# Altium footprint library pengyulib.PcbLib: 33 footprints (part 2 of 3)
Each footprint in its own frame and in the unit in brackets; x right, y up, seen from the top. Pads: shape width x height; smd on the part's side, far side on the other; paste and mask are expansions set on the pad; w line width, h text height; cw(c..) or ccw(c..) is an arc to the next point about the centre after c.
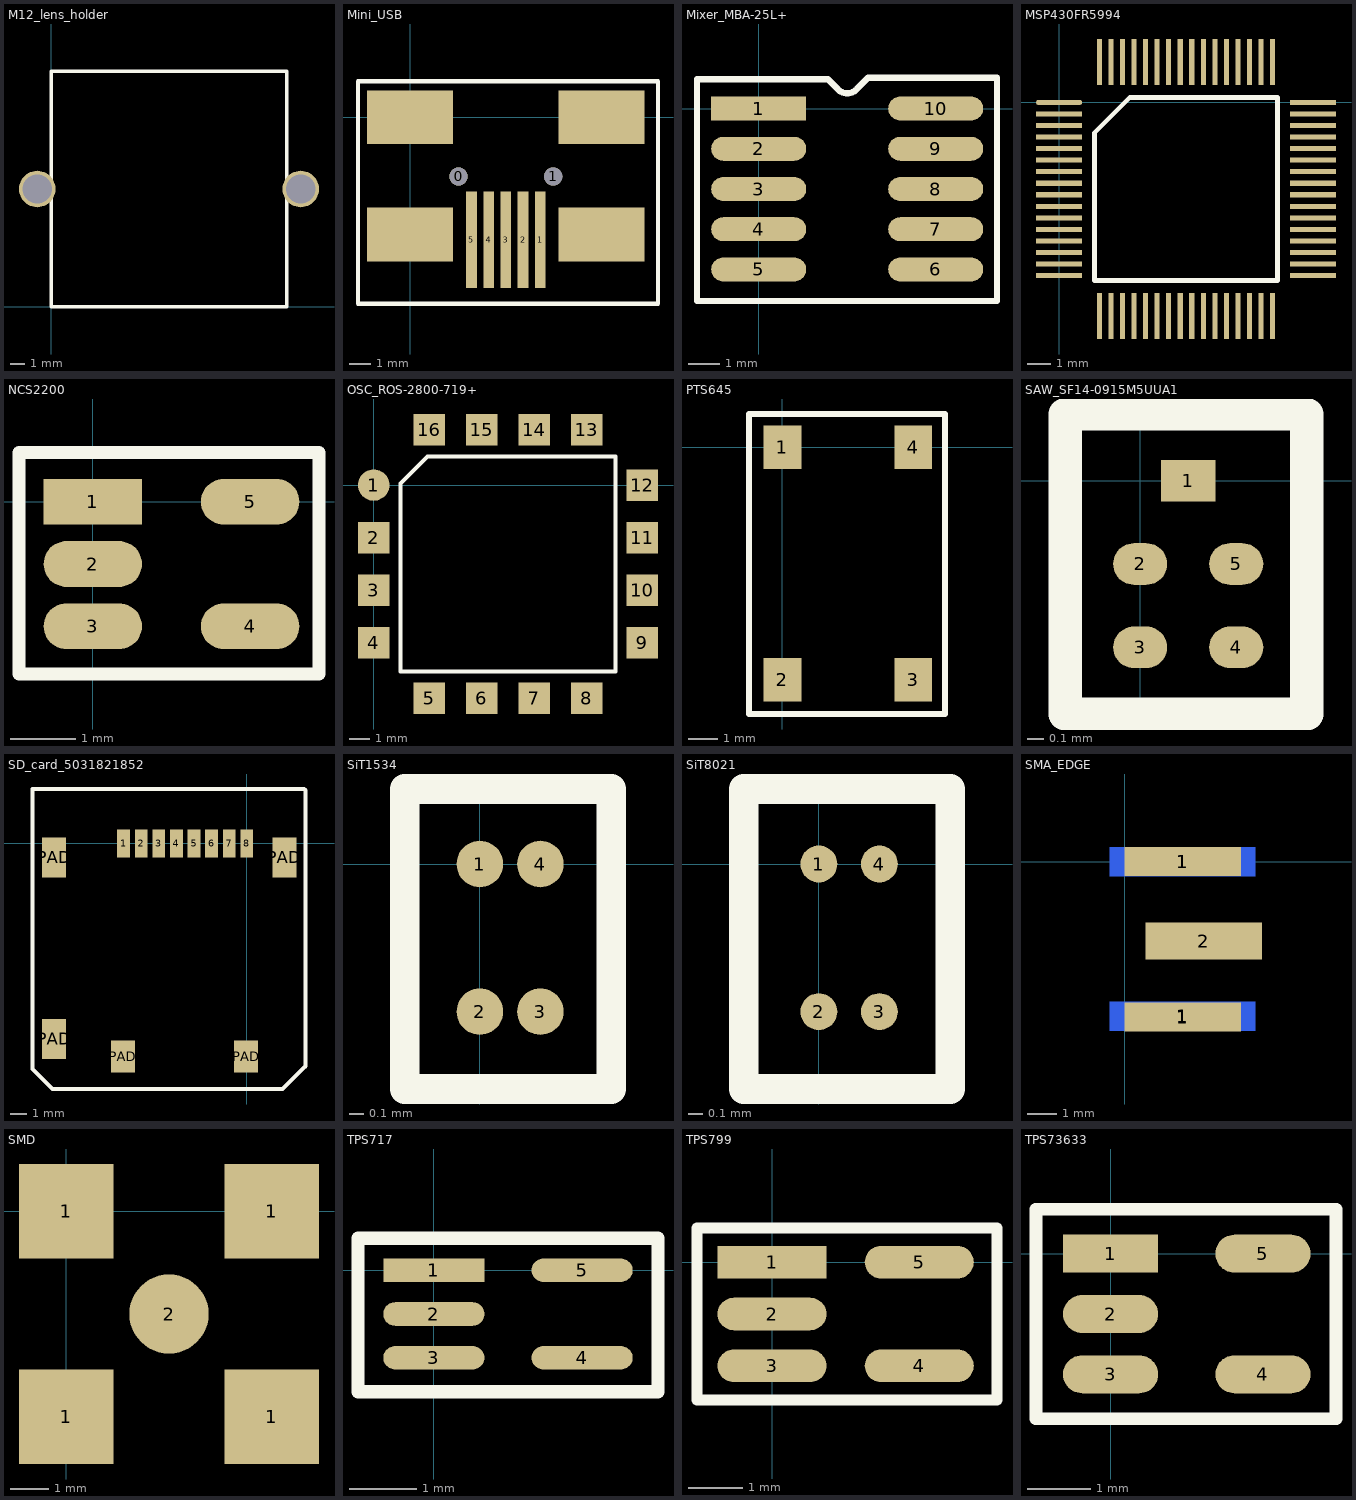
[diagram p1: the footprints below, top view; thin cyan lines are the x and y axes]

## M12_lens_holder [mm]
pads (2):
  round 2.5 hole 2: ""(-0.961,8.039) ""(17.039,8.039)
Top Overlay:
  lines w0.254: 0,0 0,16.078 16.078,16.078 16.078,0 0,0

## Mini_USB [mm]
pads (11):
  round 0.85 hole 0.85: 0(2.25,-2.755) 1(6.65,-2.755)
  rect 0.5x4.5 smd: 1(6.05,-5.7) 2(5.25,-5.7) 3(4.45,-5.7) 4(3.65,-5.7) 5(2.85,-5.7)
  rect 4x2.5 smd: ""(0,-5.45) ""(0,0) ""(8.9,-5.45) ""(8.9,0)
Top Overlay:
  lines w0.2: -2.425,-8.675 11.525,-8.675 11.525,1.675 -2.425,1.675 -2.425,-8.675

## Mixer_MBA-25L+ [mm]
pads (10):
  rect 3x0.76 smd: 1(0,0)
  oval 3x0.76 smd: 2(0,-1.27) 3(0,-2.54) 4(0,-3.81) 5(0,-5.08) 6(5.59,-5.08) 7(5.59,-3.81) 8(5.59,-2.54) 9(5.59,-1.27) 10(5.59,0)
Top Overlay:
  lines w0.2: -1.95,-6.075 -1.95,0.925 2.187,0.925 2.477,0.635 ccw(c2.795,0.878) 3.112,0.635 3.452,0.975 7.525,0.975 7.525,-6.075 -1.95,-6.075

## MSP430FR5994 [mm]
pads (64):
  oval 2x0.22 smd: 1(0,0)
  rect 2x0.22 smd: 2(0,-0.5) 3(0,-1) 4(0,-1.5) 5(0,-2) 6(0,-2.5) 7(0,-3) 8(0,-3.5) 9(0,-4) 10(0,-4.5) 11(0,-5) 12(0,-5.5) 13(0,-6) 14(0,-6.5) 15(0,-7) 16(0,-7.5) 33(11,-7.5) 34(11,-7) 35(11,-6.5) 36(11,-6) 37(11,-5.5) 38(11,-5) 39(11,-4.5) 40(11,-4) 41(11,-3.5) 42(11,-3) 43(11,-2.5) 44(11,-2) 45(11,-1.5) 46(11,-1) 47(11,-0.5) 48(11,0)
  rect 0.22x2 smd: 17(1.75,-9.25) 18(2.25,-9.25) 19(2.75,-9.25) 20(3.25,-9.25) 21(3.75,-9.25) 22(4.25,-9.25) 23(4.75,-9.25) 24(5.25,-9.25) 25(5.75,-9.25) 26(6.25,-9.25) 27(6.75,-9.25) 28(7.25,-9.25) 29(7.75,-9.25) 30(8.25,-9.25) 31(8.75,-9.25) 32(9.25,-9.25) 49(9.25,1.75) 50(8.75,1.75) 51(8.25,1.75) 52(7.75,1.75) 53(7.25,1.75) 54(6.75,1.75) 55(6.25,1.75) 56(5.75,1.75) 57(5.25,1.75) 58(4.75,1.75) 59(4.25,1.75) 60(3.75,1.75) 61(3.25,1.75) 62(2.75,1.75) 63(2.25,1.75) 64(1.75,1.75)
Top Overlay:
  lines w0.2: 1.535,-7.715 1.535,-1.32 3.07,0.215 9.465,0.215 9.465,-7.715 1.535,-7.715

## NCS2200 [mm]
pads (5):
  rect 1.5x0.7 smd: 1(0,0)
  oval 1.5x0.7 smd: 2(0,-0.95) 3(0,-1.9) 4(2.4,-1.9) 5(2.4,0)
Top Overlay:
  lines w0.2: -1.125,-2.625 3.45,-2.625 3.45,0.75 -1.125,0.75 -1.125,-2.625

## OSC_ROS-2800-719+ [mm]
pads (16):
  round 1.52 smd: 1(0,0)
  rect 1.52x1.52 smd: 2(0,-2.54) 3(0,-5.08) 4(0,-7.62) 5(2.67,-10.29) 6(5.21,-10.29) 7(7.75,-10.29) 8(10.29,-10.29) 9(12.96,-7.62) 10(12.96,-5.08) 11(12.96,-2.54) 12(12.96,0) 13(10.29,2.67) 14(7.75,2.67) 15(5.21,2.67) 16(2.67,2.67)
Top Overlay:
  lines w0.2: 1.295,-8.995 1.295,0.08 2.59,1.375 11.665,1.375 11.665,-8.995 1.295,-8.995

## PTS645 [mm]
pads (4):
  rect 1.3x1.5 smd: 1(0,0) 2(0,-8) 3(4.5,-8) 4(4.5,0)
Top Overlay:
  lines w0.2: -1.143,-9.175 -1.143,1.143 0.54,1.143 3.905,1.143 5.588,1.143 5.588,-9.175 -1.143,-9.175

## SAW_SF14-0915M5UUA1 [mm]
pads (5):
  rect 0.325x0.25 smd: 1(0.288,0)
  oval 0.325x0.25 smd: 2(0,-0.5) 3(0,-1) 4(0.576,-1) 5(0.576,-0.5)
Top Overlay:
  lines w0.2: -0.45,-1.4 1,-1.4 1,0.4 -0.45,0.4 -0.45,-1.4

## SD_card_5031821852 [mm]
pads (13):
  rect 0.8x1.75 smd: 1(-7.7,0) 2(-6.6,0) 3(-5.5,0) 4(-4.4,0) 5(-3.3,0) 6(-2.2,0) 7(-1.1,0) 8(0,0)
  rect 1.5x2.5 smd: PAD(-12.045,-12.214) PAD(-12.045,-0.875) PAD(2.345,-0.875)
  rect 1.5x2 smd: PAD(-7.74,-13.314) PAD(-0.04,-13.314)
Top Overlay:
  lines w0.254: 3.581,3.404 2.159,3.404 -13.386,3.404 -13.386,-14.097 -12.141,-15.342 2.235,-15.342 3.658,-13.919 3.658,2.362 3.658,2.997 3.658,3.327

## SiT1534 [mm]
pads (4):
  round 0.315 smd: 1(0,0) 2(0,-1) 3(0.41,-1) 4(0.41,0)
Top Overlay:
  lines w0.2: -0.508,-1.524 -0.508,0.508 0.889,0.508 0.889,-1.524 -0.508,-1.524

## SiT8021 [mm]
pads (4):
  round 0.25 smd: 1(0,0) 2(0,-1) 3(0.41,-1) 4(0.41,0)
Top Overlay:
  lines w0.2: -0.508,-1.524 0.889,-1.524 0.889,0.508 -0.508,0.508 -0.508,-1.524

## SMA_EDGE [mm]
pads (5):
  rect 4x1 smd: 1(2,-5.35) 1(2,0)
  rect 5x1 smd far side: 1(2,-5.32) 1(2,0)
  rect 4x1.27 smd: 2(2.73,-2.73)

## SMD [mm]
pads (5):
  rect 2.44x2.44 smd: 1(0,-5.32) 1(0,0) 1(5.32,-5.32) 1(5.32,0)
  round 2.05 smd: 2(2.66,-2.66)

## TPS717 [mm]
pads (5):
  rect 1.5x0.35 smd: 1(0,0)
  oval 1.5x0.35 smd: 2(0,-0.65) 3(0,-1.3) 4(2.2,-1.3) 5(2.2,0)
Top Overlay:
  lines w0.2: -1.125,-1.8 -1.125,0.475 3.325,0.475 3.325,-1.8 -1.125,-1.8

## TPS799 [mm]
pads (5):
  rect 2x0.6 smd: 1(0,0)
  oval 2x0.6 smd: 2(0,-0.95) 3(0,-1.9) 4(2.7,-1.9) 5(2.7,0)
Top Overlay:
  lines w0.2: -1.375,-2.525 4.125,-2.525 4.125,0.625 -1.375,0.625 -1.375,-2.525

## TPS73633 [mm]
pads (5):
  rect 1.5x0.6 smd: 1(0,0)
  oval 1.5x0.6 smd: 2(0,-0.95) 3(0,-1.9) 4(2.4,-1.9) 5(2.4,0)
Top Overlay:
  lines w0.2: -1.175,-2.6 3.55,-2.6 3.55,0.7 -1.175,0.7 -1.175,-2.6